# Altium footprint library SAMTEC-SSQ-104-01-X-S.PCBLIB: 1 footprints
Each footprint in its own frame and in the unit in brackets; x right, y up, seen from the top. Pads: shape width x height; smd on the part's side, far side on the other; paste and mask are expansions set on the pad; w line width, h text height; cw(c..) or ccw(c..) is an arc to the next point about the centre after c.
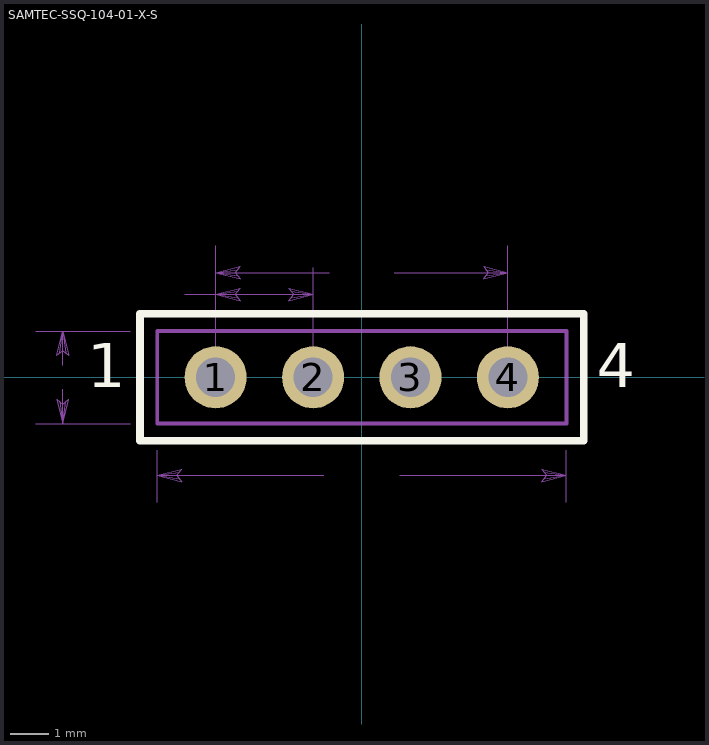
[diagram p0: the footprint, top view; thin cyan lines are the x and y axes]

## SAMTEC-SSQ-104-01-X-S [mm]
pads (4):
  round 1.62 hole 1.02: 1(-3.81,0) 2(-1.27,0) 3(1.27,0) 4(3.81,0)
Top Overlay:
  lines w0.2: -5.784,-1.657 5.784,-1.657 5.784,1.657 -5.784,1.657 -5.784,-1.657
  text "4" at 6.125,-0.635 h1.97
  text "1" at -7.154,-0.635 h1.97
Top Solder:
  circle w0: c3.81,0 r0.861
  circle w0: c1.27,0 r0.861
  circle w0: c-1.27,0 r0.861
  circle w0: c-3.81,0 r0.861
Bottom Solder:
  circle w0: c3.81,0 r0.861
  circle w0: c1.27,0 r0.861
  circle w0: c-1.27,0 r0.861
  circle w0: c-3.81,0 r0.861
Mechanical 16:
  lines w0.1: -5.334,-1.206 -2.54,-1.206 0,-1.206 2.54,-1.206 5.334,-1.206 5.334,1.206 2.54,1.206 0,1.206 -2.54,1.206 -5.334,1.206 -5.334,-1.206 ; -4.204,-0.394 -4.204,0.394 -3.416,0.394 -3.416,-0.394 -4.204,-0.394 ; -1.664,-0.394 -1.664,0.394 -0.876,0.394 -0.876,-0.394 -1.664,-0.394 ; 0.876,-0.394 0.876,0.394 1.664,0.394 1.664,-0.394 0.876,-0.394 ; 3.416,-0.394 3.416,0.394 4.204,0.394 4.204,-0.394 3.416,-0.394
  text "4" at 6.125,-0.635 h1.97
  text "1" at -7.154,-0.635 h1.97
Mechanical 40:
  lines w0: -8.499,-1.206 -6.035,-1.206 ; -8.499,1.206 -6.035,1.206 ; -7.798,-0.318 -7.798,-1.206 ; -7.798,0.318 -7.798,1.206 ; -5.334,-3.261 -5.334,-1.908 ; -4.61,2.159 -3.81,2.159 ; -3.81,2.86 -3.81,0.701 -3.81,3.432 ; -1.27,0.701 -1.27,2.86 ; -0.991,-2.56 -5.334,-2.56 ; -0.851,2.73 -3.81,2.73 ; 0.851,2.73 3.81,2.73 ; 0.991,-2.56 5.334,-2.56 ; 3.81,0.701 3.81,3.432 ; 5.334,-3.261 5.334,-1.908 ; -7.957,-0.572 -7.877,-0.635 -7.798,-1.206 ; -7.957,-0.572 -7.798,-0.698 ; -7.957,-0.572 -7.798,-1.206 ; -7.798,-1.206 -7.798,-0.698 ; -7.798,-1.206 -7.718,-0.635 -7.798,-0.698 ; -7.798,-1.206 -7.639,-0.572 -7.798,-0.698 ; -7.798,0.698 -7.798,1.206 ; -7.798,0.698 -7.877,0.635 -7.798,1.206 ; -7.798,0.698 -7.639,0.572 ; -7.798,0.698 -7.957,0.572 -7.798,1.206 ; -7.798,1.206 -7.718,0.635 -7.639,0.572 ; -7.798,1.206 -7.639,0.572 ; -5.334,-2.56 -4.762,-2.481 -4.699,-2.402 ; -5.334,-2.56 -4.826,-2.56 ; -5.334,-2.56 -4.762,-2.64 -4.826,-2.56 ; -5.334,-2.56 -4.699,-2.719 -4.826,-2.56 ; -5.334,-2.56 -4.699,-2.402 ; -4.826,-2.56 -4.699,-2.402 ; -3.81,2.159 -1.27,2.159 ; -3.81,2.159 -3.238,2.238 -3.175,2.318 ; -3.81,2.159 -3.302,2.159 ; -3.81,2.159 -3.238,2.08 -3.302,2.159 ; -3.81,2.159 -3.175,2 -3.302,2.159 ; -3.81,2.159 -3.175,2.318 ; -3.81,2.73 -3.238,2.81 -3.175,2.889 ; -3.81,2.73 -3.302,2.73 ; -3.81,2.73 -3.238,2.651 -3.302,2.73 ; -3.81,2.73 -3.175,2.572 -3.302,2.73 ; -3.81,2.73 -3.175,2.889 ; -3.302,2.159 -3.175,2.318 ; -3.302,2.73 -3.175,2.889 ; -1.905,2 -1.842,2.08 -1.27,2.159 ; -1.905,2 -1.778,2.159 ; -1.905,2 -1.27,2.159 ; -1.778,2.159 -1.27,2.159 ; -1.778,2.159 -1.842,2.238 -1.27,2.159 ; -1.778,2.159 -1.905,2.318 -1.27,2.159 ; 3.175,2.572 3.238,2.651 3.81,2.73 ; 3.175,2.572 3.302,2.73 ; 3.175,2.572 3.81,2.73 ; 3.302,2.73 3.81,2.73 ; 3.302,2.73 3.238,2.81 3.81,2.73 ; 3.302,2.73 3.175,2.889 3.81,2.73 ; 4.699,-2.719 4.762,-2.64 5.334,-2.56 ; 4.699,-2.719 4.826,-2.56 ; 4.699,-2.719 5.334,-2.56 ; 4.826,-2.56 5.334,-2.56 ; 4.826,-2.56 4.762,-2.481 5.334,-2.56 ; 4.826,-2.56 4.699,-2.402 5.334,-2.56
  text "7.620" at -0.66,2.604 h0.39
  text "10.668" at -0.8,-2.687 h0.39
  text "2.540" at -6.121,2.032 h0.39
  text "2.413" at -8.458,-0.127 h0.39
Mechanical 42:
  lines w0.1: -5.784,-1.657 5.784,-1.657 5.784,1.657 -5.784,1.657 -5.784,-1.657